# EAGLE library part SPSTX4 (library gm-switches)
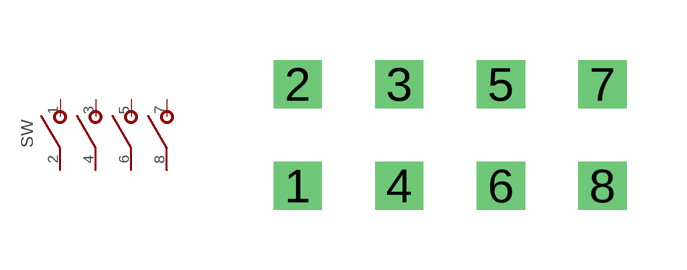
[diagram p0: symbol with the pads of SPSTX4; footprint SPSTX4]

Designator prefix SW

## SPSTX4DIP4  [SPSTX4]
1  S1  pas
2  P1  pas
3  S2  pas
4  P2  pas
5  S3  pas
6  P3  pas
7  S4  pas
8  P4  pas

## Footprint SPSTX4 (pad centres in mm)
drill 0.7 square: 1 -3.81,-1.27; 2 -3.81,1.27; 3 -1.27,1.27; 4 -1.27,-1.27; 5 1.27,1.27; 6 1.27,-1.27; 7 3.81,1.27; 8 3.81,-1.27